# EAGLE library part M3_CARTRIDGE (library nds_cart1)
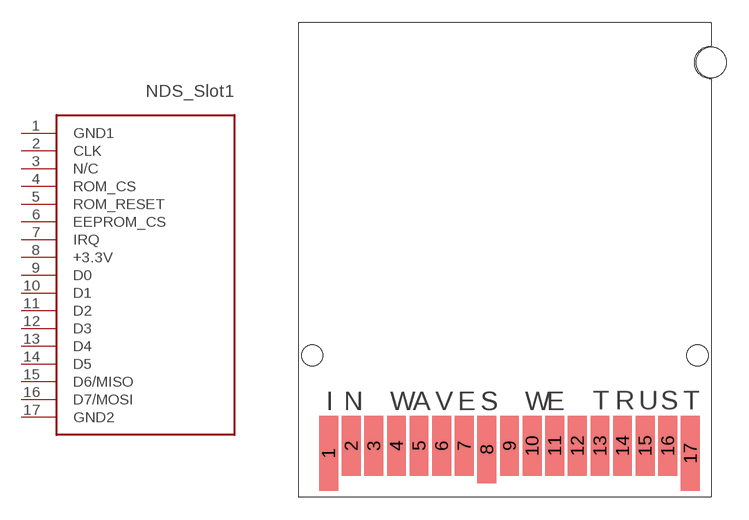
[diagram p2: symbol with the pads of M3_CARTRIDGE; footprint M3_CARTRIDGE]

Designator prefix -

## M3_CARTRIDGE  [M3_CARTRIDGE]
1  GND1  pwr
2  CLK  oc
3  N/C  nc
4  ROM_CS
5  ROM_RESET
6  EEPROM_CS
7  IRQ
8  +3.3V
9  D0
10  D1
11  D2
12  D3
13  D4
14  D5
15  D6/MISO
16  D7/MOSI
17  GND2

## Footprint M3_CARTRIDGE (pad centres in mm)
smd 1.25 x 5: 1 1.975,3; 17 25.975,3
smd 1.25 x 4: 2 3.475,3.5; 3 4.975,3.5; 4 6.475,3.5; 5 7.975,3.5; 6 9.475,3.5; 7 10.975,3.5; 9 13.975,3.5; 10 15.475,3.5; 11 16.975,3.5; 12 18.475,3.5; 13 19.975,3.5; 14 21.475,3.5; 15 22.975,3.5; 16 24.475,3.5
smd 1.25 x 4.5: 8 12.475,3.25
hole 1.4 at 0.9,9.5
hole 1.4 at 26.45,9.5
hole 2 at 27.35,28.95